# EAGLE library part EC2-3NU (library graftel-internal-ic)
3vdc Non latch type relay Through hole Mount
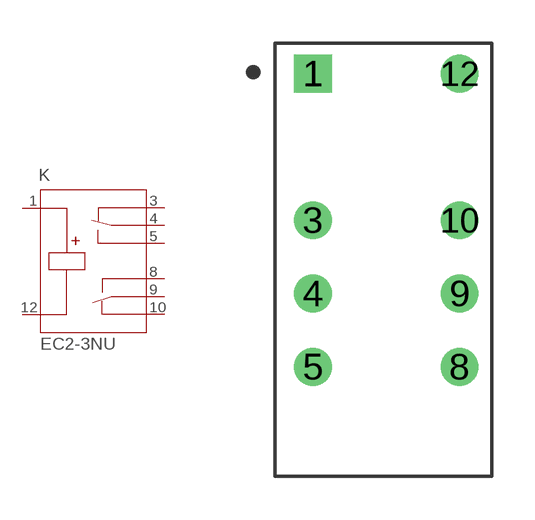
[diagram p67: symbol with the pads of KEMET_EC2-3NU; footprint KEMET_EC2-3NU]

Designator prefix K

## EC2-3NU (AVAILABILITY: Unavailable; MF: KEMET; MP: EC2-3NU; PACKAGE: None; PRICE: None)  [KEMET_EC2-3NU]
1  1  pas
3  3  pas
4  4  pas
5  5  pas
8  8  pas
9  9  pas
10  10  pas
12  12  pas

## Footprint KEMET_EC2-3NU (pad centres in mm)
drill 0.8 square: 1 -2.44,6.45
drill 0.8: 3 -2.44,1.37; 4 -2.44,-1.17; 5 -2.44,-3.71; 8 2.64,-3.71; 9 2.64,-1.17; 10 2.64,1.37; 12 2.64,6.45